# Altium schematic symbol library Zif.SchLib: 1 symbol
Pins are listed as number, name and electrical type; pins without a type are passive.

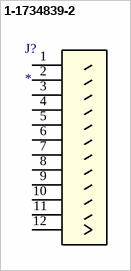
[diagram p0: symbol 1-1734839-2]

## 1-1734839-2
designator J?
Imported; Manufacturer_Part_Number: 1-1734839-2; Manufacturer_Name: Tyco Electronics Amp; Vendor: Tyco Electronics; Supersection: Connectors; Section: General Purpose; C: Copyright (C) 2015 Accelerated Designs. All rights reserved; Family: Headers and PCB Receptacles; Copyright: Copyright (C) 2015 Accelerated Designs. All rights reserved; RS_Part_Number: 7188674; Value: Value; Type: Type; RefDes: RefDes
footprint CONN_1-1734592-2
pins: 1, 2, 3, 4, 5, 6, 7, 8, 9, 10, 11, 12